# EAGLE library part F15HP (library Custom)
SUB-D
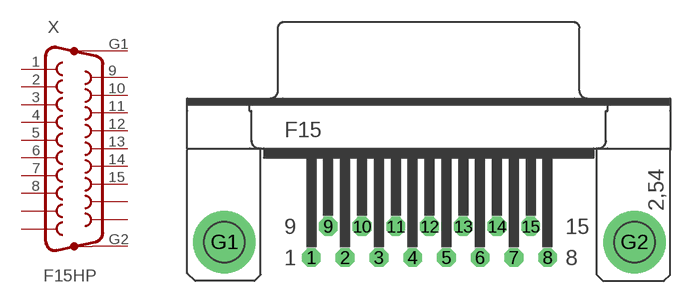
[diagram p42: symbol with the pads of F15HP; footprint F15HP]

Designator prefix X

## F15HP (OC_FARNELL: unknown; OC_NEWARK: unknown)  [F15HP]
1  D0  pas
2  D1  pas
3  D2  pas
4  D3  pas
5  D4  pas
6  D5  pas
7  D6  pas
8  D7  pas
9  DATAREQ  pas
10  RW  pas
11  GND  pas
12  A1  pas
13  GND  pas
14  ACK  pas
15  GND  pas
G1  G1  pas
G2  G2  pas

## Footprint F15HP (pad centres in mm)
SUB-D
drill 1.016 octagon: 1 -9.601,-1.27; 2 -6.858,-1.27; 3 -4.115,-1.27; 4 -1.372,-1.27; 5 1.372,-1.27; 6 4.115,-1.27; 7 6.858,-1.27; 8 9.601,-1.27; 9 -8.23,1.27; 10 -5.486,1.27; 11 -2.743,1.27; 12 0,1.27; 13 2.743,1.27; 14 5.486,1.27; 15 8.23,1.27
drill 3.302 pad 5.08: G1 -16.662,0; G2 16.662,0